# Altium schematic symbol library Schlib2.SchLib: 1 symbol
Pins are listed as number, name and electrical type; pins without a type are passive.

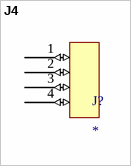
[diagram p0: symbol J4]

## J4
designator J?
footprint J4
pins: 1 (io), 2 (io), 3 (io), 4 (io)